# Altium schematic symbol library LTST-C191TBKT.SchLib: 1 symbol
Pins are listed as number, name and electrical type; pins without a type are passive.

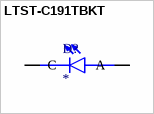
[diagram p0: symbol LTST-C191TBKT]

## LTST-C191TBKT
designator D?
LED SMD 0603 Blue 30mcd 130deg; MF: {'manufacturer': u'Lite-On Electronics'}; MP: LTST-C191TBKT; Package: None; Price: None; Value: *; Availability: Unavailable
footprint LEDC1608X65N
pins: A, C